# EAGLE library part TNY267GN (library tny26x_27x)
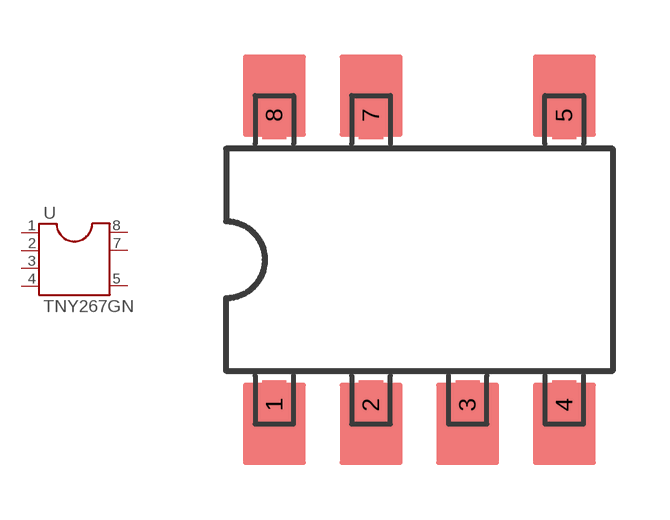
[diagram p0: symbol with the pads of SMD-8B; footprint SMD-8B]

Designator prefix -

## TNY267GN  [SMD-8B]
1  BP  pas
2  2GND  pas
3  3GND  pas
4  EN/UV  pas
5  D  pas
7  7HV-GND  pas
8  8HV-GND  pas

## Footprint SMD-8B (pad centres in mm)
smd 0.635 x 1.27: 1 -3.81,-3.81; 2 -1.27,-3.81; 3 1.27,-3.81; 4 3.81,-3.81; 5 3.81,3.81; 7 -1.27,3.81; 8 -3.81,3.81